# Altium footprint library ValkyrieSHD_PCB.PcbLib: 23 footprints (part 1 of 2)
Each footprint in its own frame and in the unit in brackets; x right, y up, seen from the top. Pads: shape width x height; smd on the part's side, far side on the other; paste and mask are expansions set on the pad; w line width, h text height; cw(c..) or ccw(c..) is an arc to the next point about the centre after c.
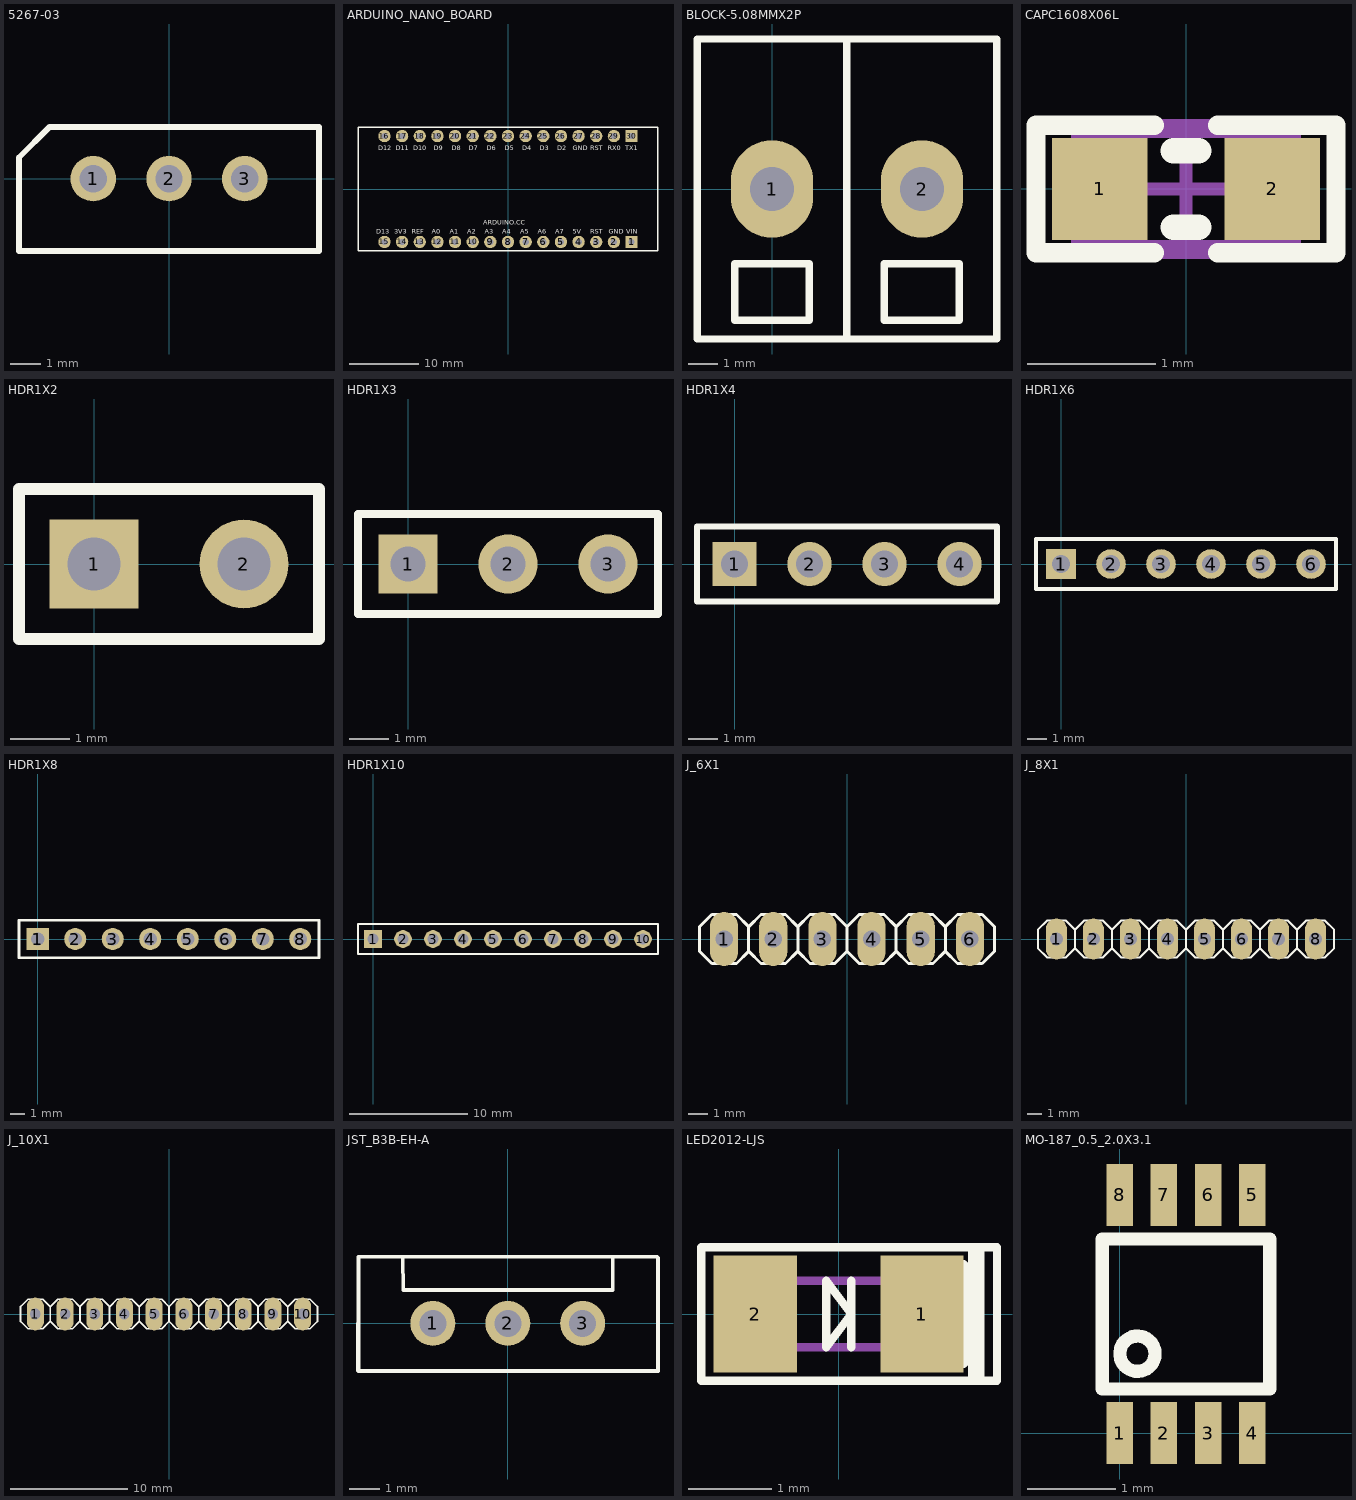
[diagram p0: the footprints below, top view; thin cyan lines are the x and y axes]

## 5267-03 [mm]
pads (3):
  round 1.5 hole 0.9: 1(-2.5,0) 2(0,0) 3(2.5,0)
Top Overlay:
  lines w0.2: -4.95,-2.38 4.95,-2.38 4.95,0 4.95,1.7 -3.95,1.7 -4.95,0.7 -4.95,0 -4.95,-2.38
3D body "022035035.stp": height 5.95, standoff -3.45, extent -4.975,-3.145 4.925,1.755

## ARDUINO_NANO_BOARD [mil] "Nano Board as Component"
pads (30):
  rect 70x70 / inner round 0 / far side rect 70x70 hole 36: 1(700,-300) 30(700,300)
  round 70 / inner round 0 / far side round 70 hole 36: 2(600,-300) 3(500,-300) 4(400,-300) 5(300,-300) 6(200,-300) 7(100,-300) 8(0,-300) 9(-100,-300) 10(-200,-300) 11(-300,-300) 12(-400,-300) 13(-500,-300) 14(-600,-300) 15(-700,-300) 16(-700,300) 17(-600,300) 18(-500,300) 19(-400,300) 20(-300,300) 21(-200,300) 22(-100,300) 23(0,300) 24(100,300) 25(200,300) 26(300,300) 27(400,300) 28(500,300) 29(600,300)
Top Overlay:
  lines w7.87: -850,-350 -850,350 850,350 850,-350 -850,-350
  text "D9" at -420.26,219.41 h27.56
  text "D5" at -18.26,219.41 h27.56
  text "D12" at -735.26,219.41 h27.56
  text "D11" at -635.26,219.41 h27.56
  text "D8" at -319.26,219.41 h27.56
  text "D7" at -221.26,219.41 h27.56
  text "D6" at -120.26,219.41 h27.56
  text "D4" at 79.74,219.41 h27.56
  text "D3" at 180.74,219.41 h27.56
  text "D2" at 278.74,219.41 h27.56
  text "GND" at 366.74,219.41 h27.56
  text "RX0" at 565.74,219.41 h27.56
  text "TX1" at 665.74,219.41 h27.56
  text "D10" at -536.26,219.41 h27.56
  text "RST" at 466.74,219.41 h27.56
  text "A0" at -431.93,-254 h27.56
  text "A4" at -32.93,-254 h27.56
  text "5V" at 367.07,-254 h27.56
  text "3V3" at -644.93,-254 h27.56
  text "D13" at -745.93,-254 h27.56
  text "A2" at -231.93,-254 h27.56
  text "A1" at -330.93,-254 h27.56
  text "A5" at 68.07,-254 h27.56
  text "A3" at -131.93,-254 h27.56
  text "A7" at 267.07,-254 h27.56
  text "A6" at 168.07,-254 h27.56
  text "VIN" at 669.07,-254 h27.56
  text "GND" at 570.07,-254 h27.56
  text "RST" at 467.07,-254 h27.56
  text "REF" at -545.93,-254 h27.56
  text "ARDUINO.CC" at -141.24,-202.45 h27.56

## BLOCK-5.08MMX2P [mil]
pads (2):
  oval 110x130 hole 59.06: 1(0,0) 2(200,0)
Top Overlay:
  lines w10: 100,-200 100,200 ; -100,-200 -100,0 -100,200 300,200 300,-200 -100,-200 ; -50,-175 50,-175 50,-100 -50,-100 -50,-175 ; 150,-175 250,-175 250,-100 150,-100 150,-175
3D body "Bornera doble.STEP": height 566.93, standoff -137.8, extent -107.28,-196.85 308.07,204.72

## CAPC1608X06L [mm]
pads (2):
  rect 0.75x0.8 smd: 1(-0.675,0) 2(0.675,0)
Top Overlay:
  lines w0.152: -0.25,-0.5 -1.175,-0.5 -1.175,0.5 -0.25,0.5 ; 0.25,-0.5 1.175,-0.5 1.175,0.5 0.25,0.5
  lines w0.2: -0.1,-0.3 0.1,-0.3 ; -0.1,0.3 0.1,0.3
Mechanical 13:
  lines w0.1: -0.85,-0.45 -0.85,0.45 0.85,0.45 0.85,-0.45 -0.85,-0.45
Mechanical 15:
  lines w0.1: -0.45,0 0.45,0 ; 0,-0.45 0,0.45 ; -1.175,-0.5 1.175,-0.5 1.175,0.5 -1.175,0.5 -1.175,-0.5
3D body "User Library-Chip Capacitor 0603.step": height 0.8, standoff 0, extent -0.8,-0.43 0.8,0.43

## HDR1X2 [mm] "Connector; Header; 2 Position"
pads (2):
  rect 1.5x1.5 hole 0.9: 1(0,0)
  round 1.5 hole 0.9: 2(2.54,0)
Top Overlay:
  lines w0.2: -1.27,-1.27 3.81,-1.27 3.81,1.27 -1.27,1.27 -1.27,-1.27

## HDR1X3 [mm] "Connector; Header; 3 Position"
pads (3):
  rect 1.5x1.5 hole 0.9: 1(0,0)
  round 1.5 hole 0.9: 2(2.54,0) 3(5.08,0)
Top Overlay:
  lines w0.2: -1.27,-1.27 -1.27,1.27 6.35,1.27 6.35,-1.27 -1.27,-1.27

## HDR1X4 [mm] "Connector; Header; 4 Position"
pads (4):
  rect 1.5x1.5 hole 0.9: 1(0,0)
  round 1.5 hole 0.9: 2(2.54,0) 3(5.08,0) 4(7.62,0)
Top Overlay:
  lines w0.2: -1.27,-1.27 -1.27,1.27 8.89,1.27 8.89,-1.27 -1.27,-1.27

## HDR1X6 [mm] "Connector; Header; 6 Position"
pads (6):
  rect 1.5x1.5 hole 0.9: 1(0,0)
  round 1.5 hole 0.9: 2(2.54,0) 3(5.08,0) 4(7.62,0) 5(10.16,0) 6(12.7,0)
Top Overlay:
  lines w0.2: -1.27,-1.27 -1.27,1.27 13.97,1.27 13.97,-1.27 -1.27,-1.27

## HDR1X8 [mm] "Connector; Header; 8 Position"
pads (8):
  rect 1.5x1.5 hole 0.9: 1(0,0)
  round 1.5 hole 0.9: 2(2.54,0) 3(5.08,0) 4(7.62,0) 5(10.16,0) 6(12.7,0) 7(15.24,0) 8(17.78,0)
Top Overlay:
  lines w0.2: -1.27,-1.27 19.05,-1.27 19.05,1.27 -1.27,1.27 -1.27,-1.27

## HDR1X10 [mm] "Connector; Header; 10 Position"
pads (10):
  rect 1.5x1.5 hole 0.9: 1(0,0)
  round 1.5 hole 0.9: 2(2.54,0) 3(5.08,0) 4(7.62,0) 5(10.16,0) 6(12.7,0) 7(15.24,0) 8(17.78,0) 9(20.32,0) 10(22.86,0)
Top Overlay:
  lines w0.2: -1.27,-1.27 -1.27,1.27 0.635,1.27 24.13,1.27 24.13,-1.27 -1.27,-1.27

## J_6X1 [mm]
pads (6):
  oval 1.45x2.8 hole 0.9: 1(-6.35,0) 2(-3.81,0) 3(-1.27,0) 4(1.27,0) 5(3.81,0) 6(6.35,0)
Top Overlay:
  lines w0.15: -5.08,-0.635 -5.715,-1.27 -6.985,-1.27 -7.62,-0.635 -7.62,0.635 -6.985,1.27 -5.715,1.27 -5.08,0.635 ; -5.08,-0.635 -5.08,0.635 ; -5.08,-0.635 -4.445,-1.27 -3.175,-1.27 -2.54,-0.635 ; -5.08,0.635 -4.445,1.27 -3.175,1.27 -2.54,0.635 ; -2.54,-0.635 -1.905,-1.27 -0.635,-1.27 0,-0.635 ; -2.54,-0.635 -2.54,0.635 ; -2.54,0.635 -1.905,1.27 -0.635,1.27 0,0.635 ; 0,-0.635 0.635,-1.27 1.905,-1.27 2.54,-0.635 ; 0,-0.635 0,0.635 ; 0,0.635 0.635,1.27 1.905,1.27 2.54,0.635 ; 2.54,-0.635 2.54,0.635 ; 2.54,-0.635 3.175,-1.27 4.445,-1.27 5.08,-0.635 ; 2.54,0.635 3.175,1.27 4.445,1.27 5.08,0.635 ; 5.08,-0.635 5.08,0.635 ; 5.08,-0.635 5.715,-1.27 6.985,-1.27 7.62,-0.635 7.62,0.635 6.985,1.27 5.715,1.27 5.08,0.635

## J_8X1 [mm]
pads (8):
  oval 1.45x2.8 hole 0.9: 1(-8.89,0) 2(-6.35,0) 3(-3.81,0) 4(-1.27,0) 5(1.27,0) 6(3.81,0) 7(6.35,0) 8(8.89,0)
Top Overlay:
  lines w0.15: -7.62,-0.635 -8.255,-1.27 -9.525,-1.27 -10.16,-0.635 -10.16,0.635 -9.525,1.27 -8.255,1.27 -7.62,0.635 ; -7.62,-0.635 -7.62,0.635 ; -7.62,-0.635 -6.985,-1.27 -5.715,-1.27 -5.08,-0.635 ; -7.62,0.635 -6.985,1.27 -5.715,1.27 -5.08,0.635 ; -5.08,-0.635 -5.08,0.635 ; -5.08,-0.635 -4.445,-1.27 -3.175,-1.27 -2.54,-0.635 ; -5.08,0.635 -4.445,1.27 -3.175,1.27 -2.54,0.635 ; -2.54,-0.635 -1.905,-1.27 -0.635,-1.27 0,-0.635 ; -2.54,-0.635 -2.54,0.635 ; -2.54,0.635 -1.905,1.27 -0.635,1.27 0,0.635 ; 0,-0.635 0,0.635 ; 0,-0.635 0.635,-1.27 1.905,-1.27 2.54,-0.635 ; 0,0.635 0.635,1.27 1.905,1.27 2.54,0.635 ; 2.54,-0.635 3.175,-1.27 4.445,-1.27 5.08,-0.635 ; 2.54,-0.635 2.54,0.635 ; 2.54,0.635 3.175,1.27 4.445,1.27 5.08,0.635 ; 5.08,-0.635 5.08,0.635 ; 5.08,-0.635 5.715,-1.27 6.985,-1.27 7.62,-0.635 ; 5.08,0.635 5.715,1.27 6.985,1.27 7.62,0.635 ; 7.62,-0.635 7.62,0.635 ; 7.62,-0.635 8.255,-1.27 9.525,-1.27 10.16,-0.635 10.16,0.635 9.525,1.27 8.255,1.27 7.62,0.635

## J_10X1 [mm]
pads (10):
  oval 1.45x2.8 hole 0.9: 1(-11.43,0) 2(-8.89,0) 3(-6.35,0) 4(-3.81,0) 5(-1.27,0) 6(1.27,0) 7(3.81,0) 8(6.35,0) 9(8.89,0) 10(11.43,0)
Top Overlay:
  lines w0.15: -10.16,-0.635 -10.795,-1.27 -12.065,-1.27 -12.7,-0.635 -12.7,0.635 -12.065,1.27 -10.795,1.27 -10.16,0.635 ; -10.16,-0.635 -10.16,0.635 ; -10.16,-0.635 -9.525,-1.27 -8.255,-1.27 -7.62,-0.635 ; -10.16,0.635 -9.525,1.27 -8.255,1.27 -7.62,0.635 ; -7.62,-0.635 -7.62,0.635 ; -7.62,-0.635 -6.985,-1.27 -5.715,-1.27 -5.08,-0.635 ; -7.62,0.635 -6.985,1.27 -5.715,1.27 -5.08,0.635 ; -5.08,-0.635 -4.445,-1.27 -3.175,-1.27 -2.54,-0.635 ; -5.08,-0.635 -5.08,0.635 ; -5.08,0.635 -4.445,1.27 -3.175,1.27 -2.54,0.635 ; -2.54,-0.635 -2.54,0.635 ; -2.54,-0.635 -1.905,-1.27 -0.635,-1.27 0,-0.635 ; -2.54,0.635 -1.905,1.27 -0.635,1.27 0,0.635 ; 0,-0.635 0.635,-1.27 1.905,-1.27 2.54,-0.635 ; 0,-0.635 0,0.635 ; 0,0.635 0.635,1.27 1.905,1.27 2.54,0.635 ; 2.54,-0.635 2.54,0.635 ; 2.54,-0.635 3.175,-1.27 4.445,-1.27 5.08,-0.635 ; 2.54,0.635 3.175,1.27 4.445,1.27 5.08,0.635 ; 5.08,-0.635 5.08,0.635 ; 5.08,-0.635 5.715,-1.27 6.985,-1.27 7.62,-0.635 ; 5.08,0.635 5.715,1.27 6.985,1.27 7.62,0.635 ; 7.62,-0.635 7.62,0.635 ; 7.62,-0.635 7.62,0.635 ; 7.62,-0.635 8.255,-1.27 9.525,-1.27 10.16,-0.635 ; 7.62,0.635 8.255,1.27 9.525,1.27 10.16,0.635 ; 10.16,-0.635 10.16,0.635 ; 10.16,-0.635 10.16,0.635 ; 10.16,-0.635 10.795,-1.27 12.065,-1.27 12.7,-0.635 12.7,0.635 12.065,1.27 10.795,1.27 10.16,0.635

## JST_B3B-EH-A [mm] "2.5mm pitch"
pads (3):
  round 1.5 hole 0.9: 1(-2.5,0) 2(0,0) 3(2.5,0)
Top Overlay:
  lines w0.127: -5,0 -5,-1.575 -4.975,-1.6 -2.5,-1.6 ; -3.505,2.214 -3.493,1.112 2.488,1.112 3.5,1.112 3.5,2.2 ; 5.013,-1.587 5.013,2.19 4.98,2.223 -4.987,2.223 -4.987,-1.587 5.013,-1.587 ; 5.013,-1.587 -1.187,-1.587 5.013,-1.587
3D body "B3B-EH-A.STEP": height 6, standoff -3.2, extent -4.987,-1.599 5.013,2.201

## LED2012-LJS [mm]
pads (2):
  rect 1x1.4 smd: 1(1,0) 2(-1,0)
Top Overlay:
  lines w0.1: 0.15,-0.4 0.15,0.4 ; 1.5,-0.6 1.5,0.6 ; -1.65,-0.8 -1.65,0.8 1.7,0.8 1.7,-0.8 -1.65,-0.8 ; -0.15,-0.4 -0.15,0.4 0.15,0 -0.15,-0.4 ; 1.6,-0.8 1.6,0.8 1.9,0.8 1.9,-0.8 1.6,-0.8
Mechanical 16:
  lines w0.1: -0.8,-0.4 0.8,-0.4 0.8,0.4 -0.8,0.4 -0.8,-0.4
3D body: height 1, standoff 0, extent -1.425,-0.65 1.4,0.65

## MO-187_0.5_2.0X3.1 [mm]
pads (8):
  rect 0.3x0.7 smd mask+0.01: 1(0,0) 2(0.5,0) 3(1,0) 4(1.5,0) 5(1.5,2.7) 6(1,2.7) 7(0.5,2.7) 8(0,2.7)
Top Overlay:
  circle w0.15: c0.2,0.9 r0.2
  lines w0.15: -0.2,0.5 -0.2,2.2 1.7,2.2 1.7,0.5 -0.2,0.5
3D body: height 0.9, standoff 0, extent -0.425,0.35 1.875,2.35